# EAGLE library part FTSH-105-02-X-DH (library FTSH-105-02-X-DH)
Connector Header Surface Mount, Right Angle 10 position 0.050in (1.27mm)
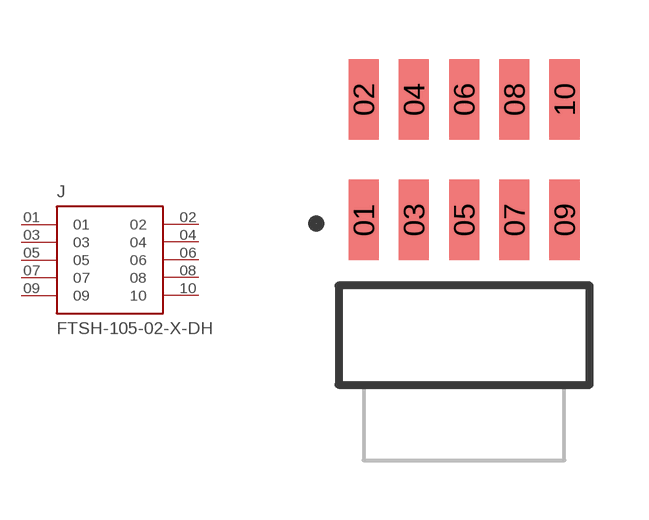
[diagram p0: symbol with the pads of SAMTEC_FTSH-105-02-X-DH; footprint SAMTEC_FTSH-105-02-X-DH]

Designator prefix J

## FTSH-105-02-X-DH (MANUFACTURER: Samtec; MAXIMUM_PACKAGE_HEIGHT: 3.73mm; PARTREV: G; STANDARD: Manufacturer Recommendations)  [SAMTEC_FTSH-105-02-X-DH]
01  01  pas
02  02  pas
03  03  pas
04  04  pas
05  05  pas
06  06  pas
07  07  pas
08  08  pas
09  09  pas
10  10  pas

## Footprint SAMTEC_FTSH-105-02-X-DH (pad centres in mm)
smd 0.76 x 2.03: 01 -2.54,-1.525; 02 -2.54,1.525; 03 -1.27,-1.525; 04 -1.27,1.525; 05 0,-1.525; 06 0,1.525; 07 1.27,-1.525; 08 1.27,1.525; 09 2.54,-1.525; 10 2.54,1.525